# Altium schematic symbol library CeleronLib_Connect.SchLib: 88 symbols (part 2 of 2)
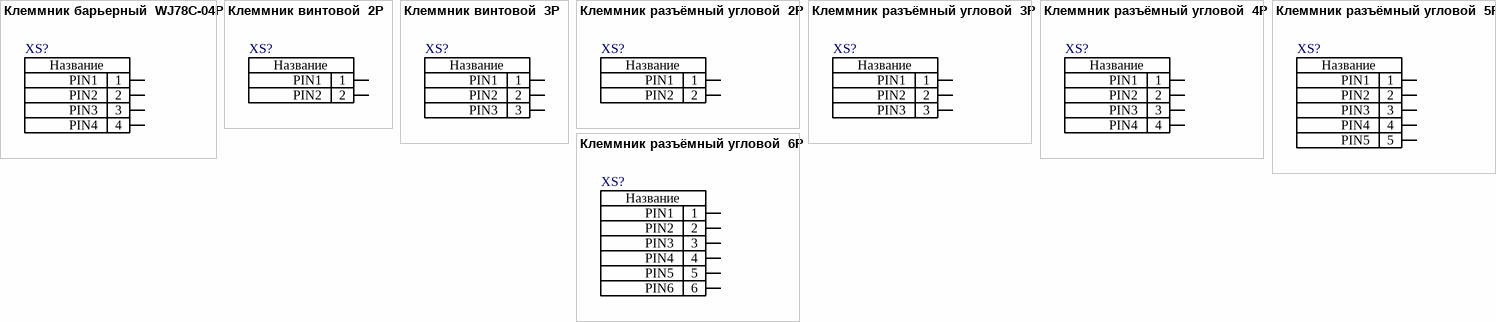
[diagram p3: symbols Клеммник барьерный  WJ78C-04P to Клеммник разъёмный угловой  6P]

## Клеммник разъёмный угловой  3P
designator XS?, comment Name: Название  (hidden comment: Клеммник разъёмный 2EDGR-5.08-03P (6A .. 15A / 300V))
Клеммник разъёмный; ComponentLink1Description: Сайт производителя; ComponentLink2Description: Datasheet; ComponentLink3Description: Где купить?; Current: 6A .. 15A; Voltage: 300V; Family: Клеммник разъёмный; Device: 2EDGR-5.08-03P
footprint 2EDGR-5.08-03P (Клеммник 2EDGR-5.08-03P (на плату, угловой, 3 pin, шаг 5.08мм))
footprint 2EDGR-5.00-03P (Клеммник 2EDGR-5.00-03P (на плату, угловой, 3 pin, шаг 5.08мм))
pins: 1 PIN1, 2 PIN2, 3 PIN3

## Клеммник разъёмный угловой  4P
designator XS?, comment Name: Название  (hidden comment: Клеммник разъёмный 2EDGR-5.08-04P (6A .. 15A / 300V))
Клеммник разъёмный; ComponentLink1Description: Сайт производителя; ComponentLink2Description: Datasheet; ComponentLink3Description: Где купить?; Current: 6A .. 15A; Voltage: 300V; Family: Клеммник разъёмный; Device: 2EDGR-5.08-04P
footprint 2EDGR-5.08-04P (Клеммник 2EDGR-5.08-04P (на плату, угловой, 3 pin, шаг 5.08мм))
footprint 2EDGR-5.00-04P (Клеммник 2EDGR-5.00-04P (на плату, угловой, 3 pin, шаг 5.08мм))
pins: 1 PIN1, 2 PIN2, 3 PIN3, 4 PIN4

## Клеммник разъёмный угловой  5P
designator XS?, comment Name: Название  (hidden comment: Клеммник разъёмный 2EDGR-5.08-05P (6A .. 15A / 300V))
Клеммник разъёмный; ComponentLink1Description: Сайт производителя; ComponentLink2Description: Datasheet; ComponentLink3Description: Где купить?; Current: 6A .. 15A; Voltage: 300V; Family: Клеммник разъёмный; Device: 2EDGR-5.08-05P
footprint 2EDGR-5.08-05P (Клеммник 2EDGR-5.08-05P (на плату, угловой, 3 pin, шаг 5.08мм))
footprint 2EDGR-5.00-05P (Клеммник 2EDGR-5.00-05P (на плату, угловой, 3 pin, шаг 5.08мм))
pins: 1 PIN1, 2 PIN2, 3 PIN3, 4 PIN4, 5 PIN5

## Клеммник разъёмный угловой  6P
designator XS?, comment Name: Название  (hidden comment: Клеммник разъёмный 2EDGR-5.08-06P (6A .. 15A / 300V))
Клеммник разъёмный; ComponentLink1Description: Сайт производителя; ComponentLink2Description: Datasheet; ComponentLink3Description: Где купить?; Current: 6A .. 15A; Voltage: 300V; Family: Клеммник разъёмный; Device: 2EDGR-5.08-06P
footprint 2EDGR-5.08-06P (Клеммник 2EDGR-5.08-06P (на плату, угловой, 3 pin, шаг 5.08мм))
footprint 2EDGR-5.00-06P (Клеммник 2EDGR-5.00-06P (на плату, угловой, 3 pin, шаг 5.08мм))
pins: 1 PIN1, 2 PIN2, 3 PIN3, 4 PIN4, 5 PIN5, 6 PIN6